# Altium schematic symbol library memory-idt.SCHLIB: 301 symbols (part 3 of 3)
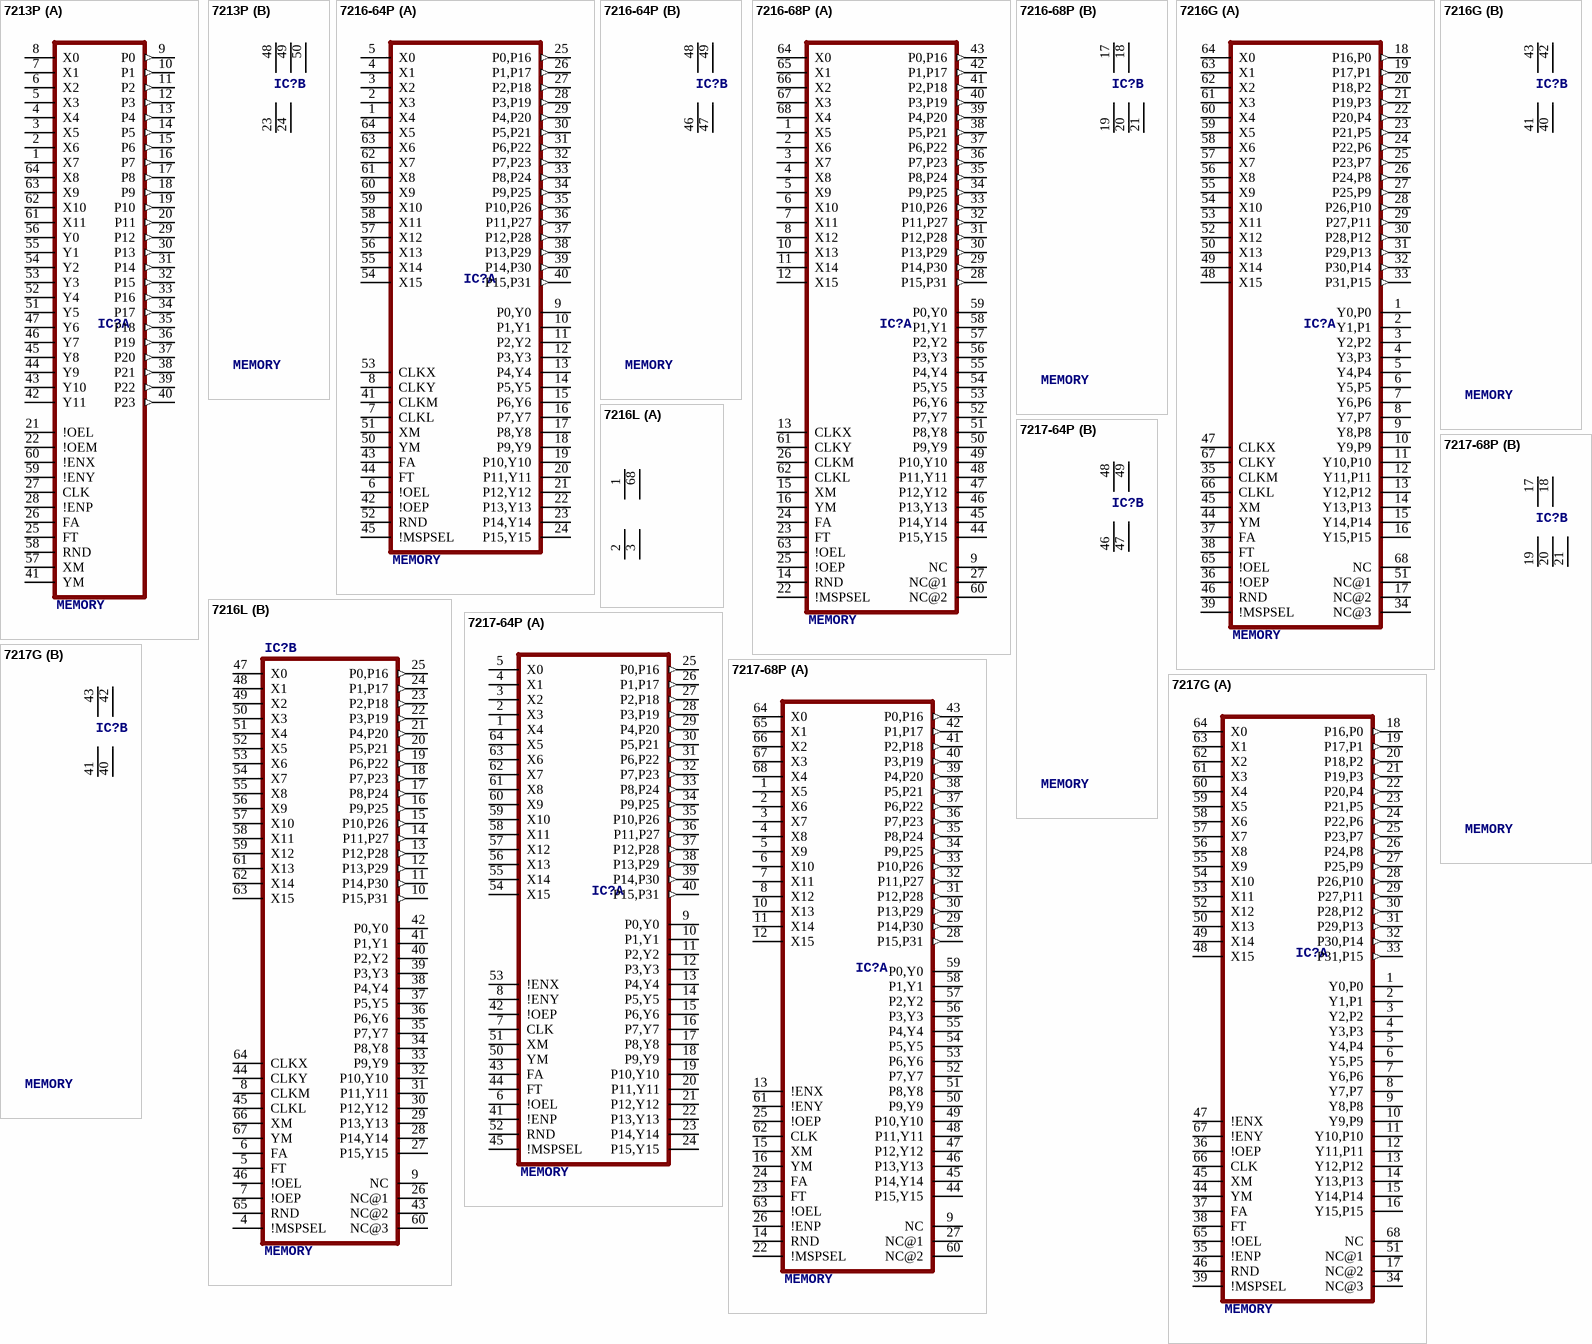
[diagram p22: symbols 7213P to 7217G]

## 7213P
designator IC?, comment MEMORY
OC_FARNELL: unknown; OC_NEWARK: unknown
footprint C64-1
part A pins: 1 X7, 2 X6, 3 X5, 4 X4, 5 X3, 6 X2, 7 X1, 8 X0, 9 P0 (out), 10 P1 (out), 11 P2 (out), 12 P3 (out), 13 P4 (out), 14 P5 (out), 15 P6 (out), 16 P7 (out), 17 P8 (out), 18 P9 (out), 19 P10 (out), 20 P11 (out), 21 !OEL, 22 !OEM, 25 FT, 26 FA, 27 CLK, 28 !ENP, 29 P12 (out), 30 P13 (out), 31 P14 (out), 32 P15 (out), 33 P16 (out), 34 P17 (out), 35 P18 (out), 36 P19 (out), 37 P20 (out), 38 P21 (out), 39 P22 (out), 40 P23 (out), 41 YM, 42 Y11, 43 Y10, 44 Y9, 45 Y8, 46 Y7, 47 Y6, 51 Y5, 52 Y4, 53 Y3, 54 Y2, 55 Y1, 56 Y0, 57 XM, 58 RND, 59 !ENY, 60 !ENX, 61 X11, 62 X10, 63 X9, 64 X8
part B pins: 23 GND (power), 24 GND@1 (power), 48 VCC (power), 49 VCC@1 (power), 50 VCC@2 (power)

## 7216-64P
designator IC?, comment MEMORY
OC_FARNELL: unknown; OC_NEWARK: unknown
footprint C64-1
part A pins: 1 X4, 2 X3, 3 X2, 4 X1, 5 X0, 6 !OEL, 7 CLKL, 8 CLKY, 9 P0,Y0, 10 P1,Y1, 11 P2,Y2, 12 P3,Y3, 13 P4,Y4, 14 P5,Y5, 15 P6,Y6, 16 P7,Y7, 17 P8,Y8, 18 P9,Y9, 19 P10,Y10, 20 P11,Y11, 21 P12,Y12, 22 P13,Y13, 23 P14,Y14, 24 P15,Y15, 25 P0,P16 (out), 26 P1,P17 (out), 27 P2,P18 (out), 28 P3,P19 (out), 29 P4,P20 (out), 30 P5,P21 (out), 31 P6,P22 (out), 32 P7,P23 (out), 33 P8,P24 (out), 34 P9,P25 (out), 35 P10,P26 (out), 36 P11,P27 (out), 37 P12,P28 (out), 38 P13,P29 (out), 39 P14,P30 (out), 40 P15,P31 (out), 41 CLKM, 42 !OEP, 43 FA, 44 FT, 45 !MSPSEL, 50 YM, 51 XM, 52 RND, 53 CLKX, 54 X15, 55 X14, 56 X13, 57 X12, 58 X11, 59 X10, 60 X9, 61 X8, 62 X7, 63 X6, 64 X5
part B pins: 46 GND (power), 47 GND@1 (power), 48 VCC (power), 49 VCC@1 (power)

## 7216-68P
designator IC?, comment MEMORY
OC_FARNELL: unknown; OC_NEWARK: unknown
footprint C68-1
part A pins: 1 X5, 2 X6, 3 X7, 4 X8, 5 X9, 6 X10, 7 X11, 8 X12, 9 NC, 10 X13, 11 X14, 12 X15, 13 CLKX, 14 RND, 15 XM, 16 YM, 22 !MSPSEL, 23 FT, 24 FA, 25 !OEP, 26 CLKM, 27 NC@1, 28 P15,P31 (out), 29 P14,P30 (out), 30 P13,P29 (out), 31 P12,P28 (out), 32 P11,P27 (out), 33 P10,P26 (out), 34 P9,P25 (out), 35 P8,P24 (out), 36 P7,P23 (out), 37 P6,P22 (out), 38 P5,P21 (out), 39 P4,P20 (out), 40 P3,P19 (out), 41 P2,P18 (out), 42 P1,P17 (out), 43 P0,P16 (out), 44 P15,Y15, 45 P14,Y14, 46 P13,Y13, 47 P12,Y12, 48 P11,Y11, 49 P10,Y10, 50 P9,Y9, 51 P8,Y8, 52 P7,Y7, 53 P6,Y6, 54 P5,Y5, 55 P4,Y4, 56 P3,Y3, 57 P2,Y2, 58 P1,Y1, 59 P0,Y0, 60 NC@2, 61 CLKY, 62 CLKL, 63 !OEL, 64 X0, 65 X1, 66 X2, 67 X3, 68 X4
part B pins: 17 VCC (power), 18 VCC@1 (power), 19 GND (power), 20 GND@1 (power), 21 GND@2 (power)

## 7216G
designator IC?, comment MEMORY
OC_FARNELL: unknown; OC_NEWARK: unknown
footprint G68-1
part A pins: 1 Y0,P0, 2 Y1,P1, 3 Y2,P2, 4 Y3,P3, 5 Y4,P4, 6 Y5,P5, 7 Y6,P6, 8 Y7,P7, 9 Y8,P8, 10 Y9,P9, 11 Y10,P10, 12 Y11,P11, 13 Y12,P12, 14 Y13,P13, 15 Y14,P14, 16 Y15,P15, 17 NC@2, 18 P16,P0 (out), 19 P17,P1 (out), 20 P18,P2 (out), 21 P19,P3 (out), 22 P20,P4 (out), 23 P21,P5 (out), 24 P22,P6 (out), 25 P23,P7 (out), 26 P24,P8 (out), 27 P25,P9 (out), 28 P26,P10 (out), 29 P27,P11 (out), 30 P28,P12 (out), 31 P29,P13 (out), 32 P30,P14 (out), 33 P31,P15 (out), 34 NC@3, 35 CLKM, 36 !OEP, 37 FA, 38 FT, 39 !MSPSEL, 44 YM, 45 XM, 46 RND, 47 CLKX, 48 X15, 49 X14, 50 X13, 51 NC@1, 52 X12, 53 X11, 54 X10, 55 X9, 56 X8, 57 X7, 58 X6, 59 X5, 60 X4, 61 X3, 62 X2, 63 X1, 64 X0, 65 !OEL, 66 CLKL, 67 CLKY, 68 NC
part B pins: 40 GND@1 (power), 41 GND (power), 42 VCC@1 (power), 43 VCC (power)

## 7216L
designator IC?, comment MEMORY
OC_FARNELL: unknown; OC_NEWARK: unknown
footprint L68-2
part A pins: 1 VCC (power), 2 GND (power), 3 GND@1 (power), 68 VCC@1 (power)
part B pins: 4 !MSPSEL, 5 FT, 6 FA, 7 !OEP, 8 CLKM, 9 NC, 10 P15,P31 (out), 11 P14,P30 (out), 12 P13,P29 (out), 13 P12,P28 (out), 14 P11,P27 (out), 15 P10,P26 (out), 16 P9,P25 (out), 17 P8,P24 (out), 18 P7,P23 (out), 19 P6,P22 (out), 20 P5,P21 (out), 21 P4,P20 (out), 22 P3,P19 (out), 23 P2,P18 (out), 24 P1,P17 (out), 25 P0,P16 (out), 26 NC@1, 27 P15,Y15, 28 P14,Y14, 29 P13,Y13, 30 P12,Y12, 31 P11,Y11, 32 P10,Y10, 33 P9,Y9, 34 P8,Y8, 35 P7,Y7, 36 P6,Y6, 37 P5,Y5, 38 P4,Y4, 39 P3,Y3, 40 P2,Y2, 41 P1,Y1, 42 P0,Y0, 43 NC@2, 44 CLKY, 45 CLKL, 46 !OEL, 47 X0, 48 X1, 49 X2, 50 X3, 51 X4, 52 X5, 53 X6, 54 X7, 55 X8, 56 X9, 57 X10, 58 X11, 59 X12, 60 NC@3, 61 X13, 62 X14, 63 X15, 64 CLKX, 65 RND, 66 XM, 67 YM

## 7217-64P
designator IC?, comment MEMORY
OC_FARNELL: unknown; OC_NEWARK: unknown
footprint C64-1
part A pins: 1 X4, 2 X3, 3 X2, 4 X1, 5 X0, 6 !OEL, 7 CLK, 8 !ENY, 9 P0,Y0, 10 P1,Y1, 11 P2,Y2, 12 P3,Y3, 13 P4,Y4, 14 P5,Y5, 15 P6,Y6, 16 P7,Y7, 17 P8,Y8, 18 P9,Y9, 19 P10,Y10, 20 P11,Y11, 21 P12,Y12, 22 P13,Y13, 23 P14,Y14, 24 P15,Y15, 25 P0,P16 (out), 26 P1,P17 (out), 27 P2,P18 (out), 28 P3,P19 (out), 29 P4,P20 (out), 30 P5,P21 (out), 31 P6,P22 (out), 32 P7,P23 (out), 33 P8,P24 (out), 34 P9,P25 (out), 35 P10,P26 (out), 36 P11,P27 (out), 37 P12,P28 (out), 38 P13,P29 (out), 39 P14,P30 (out), 40 P15,P31 (out), 41 !ENP, 42 !OEP, 43 FA, 44 FT, 45 !MSPSEL, 50 YM, 51 XM, 52 RND, 53 !ENX, 54 X15, 55 X14, 56 X13, 57 X12, 58 X11, 59 X10, 60 X9, 61 X8, 62 X7, 63 X6, 64 X5
part B pins: 46 GND (power), 47 GND@1 (power), 48 VCC (power), 49 VCC@1 (power)

## 7217-68P
designator IC?, comment MEMORY
OC_FARNELL: unknown; OC_NEWARK: unknown
footprint C68-1
part A pins: 1 X5, 2 X6, 3 X7, 4 X8, 5 X9, 6 X10, 7 X11, 8 X12, 9 NC, 10 X13, 11 X14, 12 X15, 13 !ENX, 14 RND, 15 XM, 16 YM, 22 !MSPSEL, 23 FT, 24 FA, 25 !OEP, 26 !ENP, 27 NC@1, 28 P15,P31 (out), 29 P14,P30 (out), 30 P13,P29 (out), 31 P12,P28 (out), 32 P11,P27 (out), 33 P10,P26 (out), 34 P9,P25 (out), 35 P8,P24 (out), 36 P7,P23 (out), 37 P6,P22 (out), 38 P5,P21 (out), 39 P4,P20 (out), 40 P3,P19 (out), 41 P2,P18 (out), 42 P1,P17 (out), 43 P0,P16 (out), 44 P15,Y15, 45 P14,Y14, 46 P13,Y13, 47 P12,Y12, 48 P11,Y11, 49 P10,Y10, 50 P9,Y9, 51 P8,Y8, 52 P7,Y7, 53 P6,Y6, 54 P5,Y5, 55 P4,Y4, 56 P3,Y3, 57 P2,Y2, 58 P1,Y1, 59 P0,Y0, 60 NC@2, 61 !ENY, 62 CLK, 63 !OEL, 64 X0, 65 X1, 66 X2, 67 X3, 68 X4
part B pins: 17 VCC (power), 18 VCC@1 (power), 19 GND (power), 20 GND@1 (power), 21 GND@2 (power)

## 7217G
designator IC?, comment MEMORY
OC_FARNELL: unknown; OC_NEWARK: unknown
footprint G68-1
part A pins: 1 Y0,P0, 2 Y1,P1, 3 Y2,P2, 4 Y3,P3, 5 Y4,P4, 6 Y5,P5, 7 Y6,P6, 8 Y7,P7, 9 Y8,P8, 10 Y9,P9, 11 Y10,P10, 12 Y11,P11, 13 Y12,P12, 14 Y13,P13, 15 Y14,P14, 16 Y15,P15, 17 NC@2, 18 P16,P0 (out), 19 P17,P1 (out), 20 P18,P2 (out), 21 P19,P3 (out), 22 P20,P4 (out), 23 P21,P5 (out), 24 P22,P6 (out), 25 P23,P7 (out), 26 P24,P8 (out), 27 P25,P9 (out), 28 P26,P10 (out), 29 P27,P11 (out), 30 P28,P12 (out), 31 P29,P13 (out), 32 P30,P14 (out), 33 P31,P15 (out), 34 NC@3, 35 !ENP, 36 !OEP, 37 FA, 38 FT, 39 !MSPSEL, 44 YM, 45 XM, 46 RND, 47 !ENX, 48 X15, 49 X14, 50 X13, 51 NC@1, 52 X12, 53 X11, 54 X10, 55 X9, 56 X8, 57 X7, 58 X6, 59 X5, 60 X4, 61 X3, 62 X2, 63 X1, 64 X0, 65 !OEL, 66 CLK, 67 !ENY, 68 NC
part B pins: 40 GND@1 (power), 41 GND (power), 42 VCC@1 (power), 43 VCC (power)

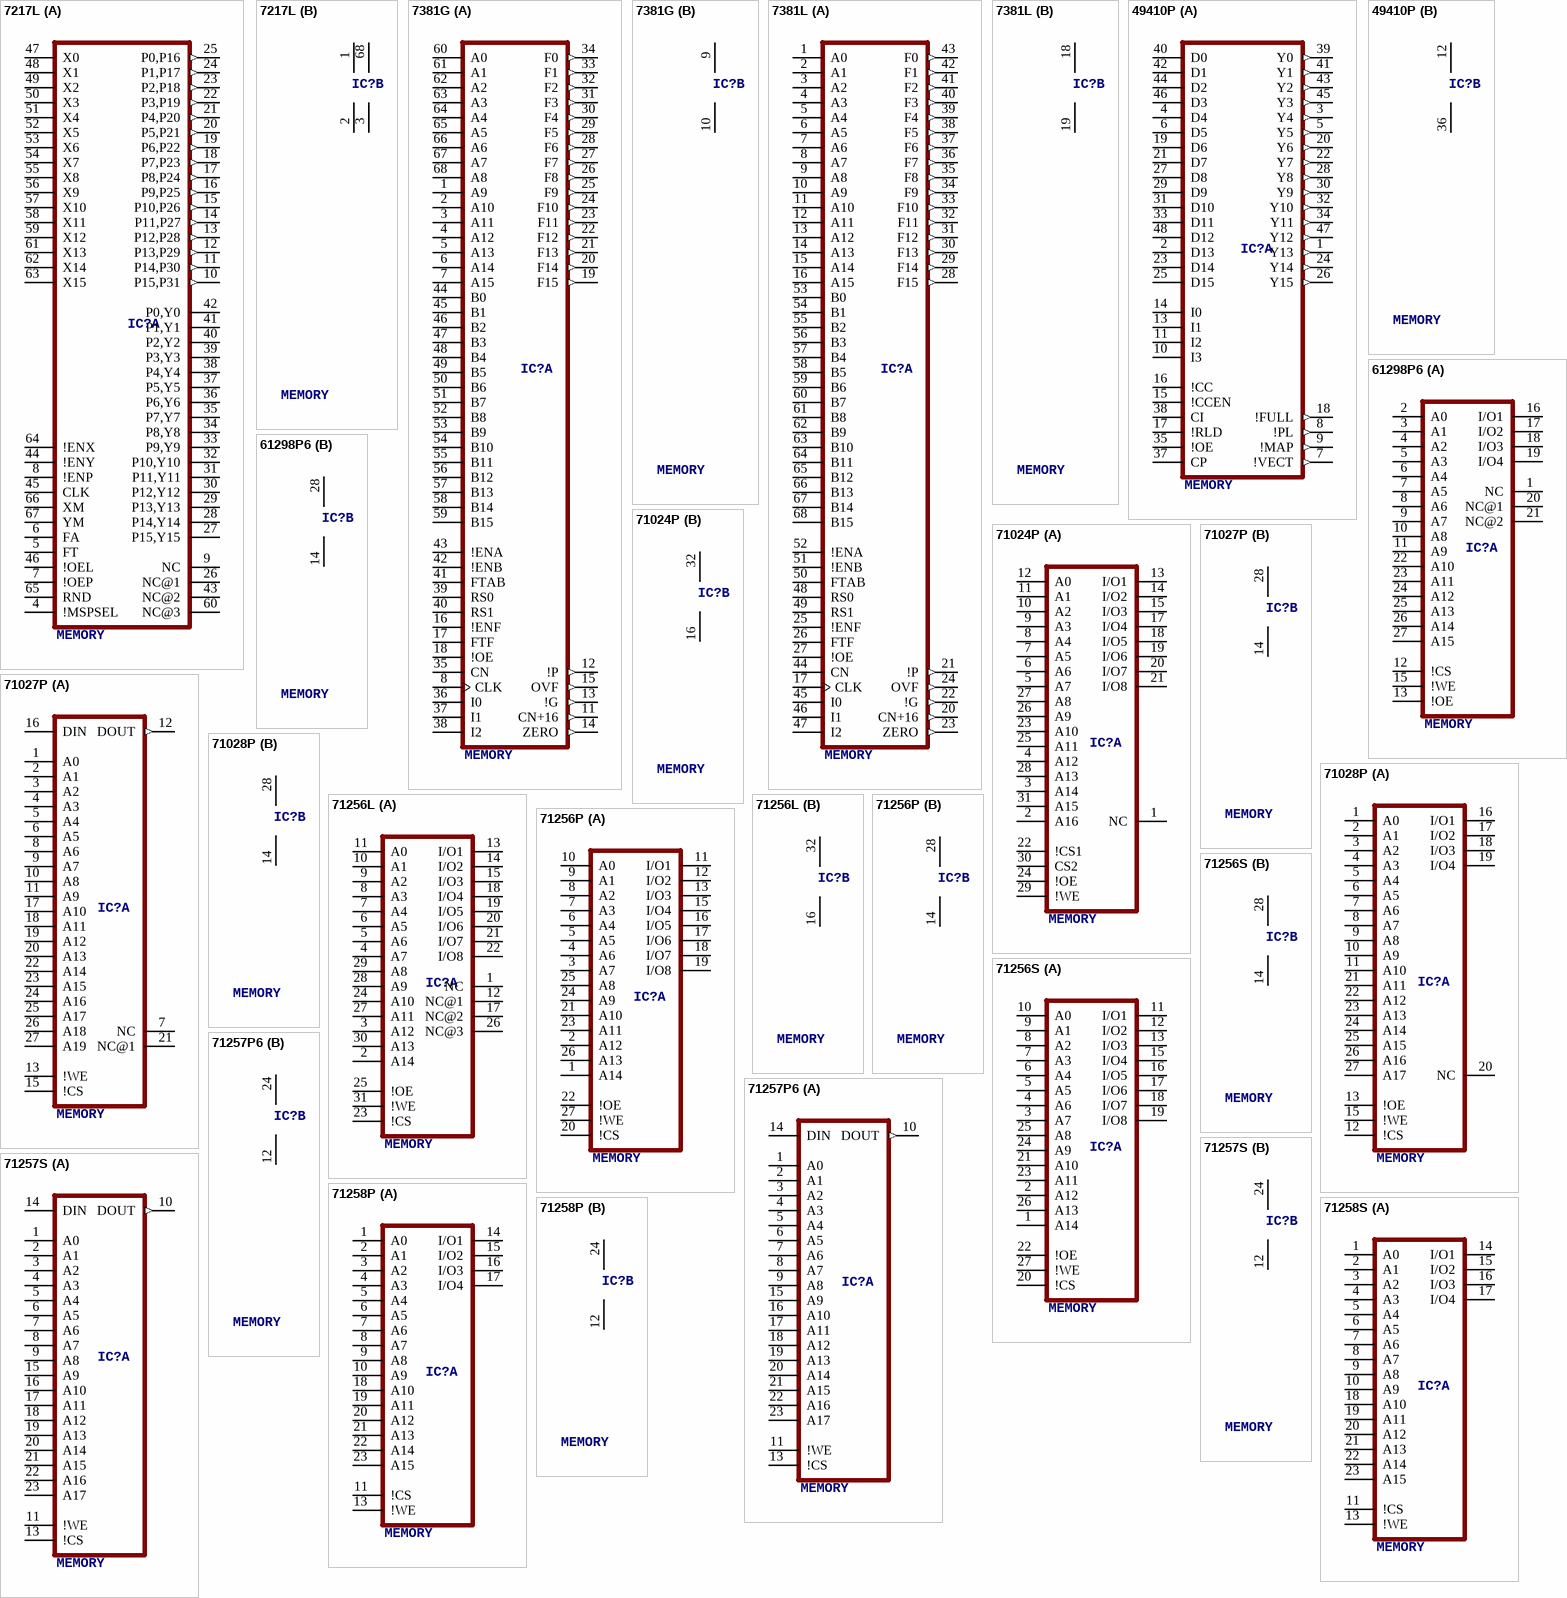
[diagram p17: symbols 7217L to 71258S]

## 7217L
designator IC?, comment MEMORY
OC_FARNELL: unknown; OC_NEWARK: unknown
footprint L68-2
part A pins: 4 !MSPSEL, 5 FT, 6 FA, 7 !OEP, 8 !ENP, 9 NC, 10 P15,P31 (out), 11 P14,P30 (out), 12 P13,P29 (out), 13 P12,P28 (out), 14 P11,P27 (out), 15 P10,P26 (out), 16 P9,P25 (out), 17 P8,P24 (out), 18 P7,P23 (out), 19 P6,P22 (out), 20 P5,P21 (out), 21 P4,P20 (out), 22 P3,P19 (out), 23 P2,P18 (out), 24 P1,P17 (out), 25 P0,P16 (out), 26 NC@1, 27 P15,Y15, 28 P14,Y14, 29 P13,Y13, 30 P12,Y12, 31 P11,Y11, 32 P10,Y10, 33 P9,Y9, 34 P8,Y8, 35 P7,Y7, 36 P6,Y6, 37 P5,Y5, 38 P4,Y4, 39 P3,Y3, 40 P2,Y2, 41 P1,Y1, 42 P0,Y0, 43 NC@2, 44 !ENY, 45 CLK, 46 !OEL, 47 X0, 48 X1, 49 X2, 50 X3, 51 X4, 52 X5, 53 X6, 54 X7, 55 X8, 56 X9, 57 X10, 58 X11, 59 X12, 60 NC@3, 61 X13, 62 X14, 63 X15, 64 !ENX, 65 RND, 66 XM, 67 YM
part B pins: 1 VCC (power), 2 GND (power), 3 GND@1 (power), 68 VCC@1 (power)

## 7381G
designator IC?, comment MEMORY
OC_FARNELL: unknown; OC_NEWARK: unknown
footprint G68-1
part A pins: 1 A9, 2 A10, 3 A11, 4 A12, 5 A13, 6 A14, 7 A15, 8 CLK, 11 CN+16 (out), 12 !P (out), 13 !G (out), 14 ZERO (out), 15 OVF (out), 16 !ENF, 17 FTF, 18 !OE, 19 F15 (out), 20 F14 (out), 21 F13 (out), 22 F12 (out), 23 F11 (out), 24 F10 (out), 25 F9 (out), 26 F8 (out), 27 F7 (out), 28 F6 (out), 29 F5 (out), 30 F4 (out), 31 F3 (out), 32 F2 (out), 33 F1 (out), 34 F0 (out), 35 CN, 36 I0, 37 I1, 38 I2, 39 RS0, 40 RS1, 41 FTAB, 42 !ENB, 43 !ENA, 44 B0, 45 B1, 46 B2, 47 B3, 48 B4, 49 B5, 50 B6, 51 B7, 52 B8, 53 B9, 54 B10, 55 B11, 56 B12, 57 B13, 58 B14, 59 B15, 60 A0, 61 A1, 62 A2, 63 A3, 64 A4, 65 A5, 66 A6, 67 A7, 68 A8
part B pins: 9 VCC (power), 10 GND (power)

## 7381L
designator IC?, comment MEMORY
OC_FARNELL: unknown; OC_NEWARK: unknown
footprint L68-2
part A pins: 1 A0, 2 A1, 3 A2, 4 A3, 5 A4, 6 A5, 7 A6, 8 A7, 9 A8, 10 A9, 11 A10, 12 A11, 13 A12, 14 A13, 15 A14, 16 A15, 17 CLK, 20 CN+16 (out), 21 !P (out), 22 !G (out), 23 ZERO (out), 24 OVF (out), 25 !ENF, 26 FTF, 27 !OE, 28 F15 (out), 29 F14 (out), 30 F13 (out), 31 F12 (out), 32 F11 (out), 33 F10 (out), 34 F9 (out), 35 F8 (out), 36 F7 (out), 37 F6 (out), 38 F5 (out), 39 F4 (out), 40 F3 (out), 41 F2 (out), 42 F1 (out), 43 F0 (out), 44 CN, 45 I0, 46 I1, 47 I2, 48 RS0, 49 RS1, 50 FTAB, 51 !ENB, 52 !ENA, 53 B0, 54 B1, 55 B2, 56 B3, 57 B4, 58 B5, 59 B6, 60 B7, 61 B8, 62 B9, 63 B10, 64 B11, 65 B12, 66 B13, 67 B14, 68 B15
part B pins: 18 VCC (power), 19 GND (power)

## 49410P
designator IC?, comment MEMORY
OC_FARNELL: unknown; OC_NEWARK: unknown
footprint DIL48
part A pins: 1 Y13 (out), 2 D13, 3 Y4 (out), 4 D4, 5 Y5 (out), 6 D5, 7 !VECT (out), 8 !PL (out), 9 !MAP (out), 10 I3, 11 I2, 13 I1, 14 I0, 15 !CCEN, 16 !CC, 17 !RLD, 18 !FULL (out), 19 D6, 20 Y6 (out), 21 D7, 22 Y7 (out), 23 D14, 24 Y14 (out), 25 D15, 26 Y15 (out), 27 D8, 28 Y8 (out), 29 D9, 30 Y9 (out), 31 D10, 32 Y10 (out), 33 D11, 34 Y11 (out), 35 !OE, 37 CP, 38 CI, 39 Y0 (out), 40 D0, 41 Y1 (out), 42 D1, 43 Y2 (out), 44 D2, 45 Y3 (out), 46 D3, 47 Y12 (out), 48 D12
part B pins: 12 VCC (power), 36 GND (power)

## 61298P6
designator IC?, comment MEMORY
OC_FARNELL: unknown; OC_NEWARK: unknown
footprint DIL28-3
part A pins: 1 NC, 2 A0, 3 A1, 4 A2, 5 A3, 6 A4, 7 A5, 8 A6, 9 A7, 10 A8, 11 A9, 12 !CS, 13 !OE, 15 !WE, 16 I/O1, 17 I/O2, 18 I/O3, 19 I/O4, 20 NC@1, 21 NC@2, 22 A10, 23 A11, 24 A12, 25 A13, 26 A14, 27 A15
part B pins: 14 GND (power), 28 VCC (power)

## 71024P
designator IC?, comment MEMORY
OC_FARNELL: unknown; OC_NEWARK: unknown
footprint DIL32
part A pins: 1 NC, 2 A16, 3 A14, 4 A12, 5 A7, 6 A6, 7 A5, 8 A4, 9 A3, 10 A2, 11 A1, 12 A0, 13 I/O1, 14 I/O2, 15 I/O3, 17 I/O4, 18 I/O5, 19 I/O6, 20 I/O7, 21 I/O8, 22 !CS1, 23 A10, 24 !OE, 25 A11, 26 A9, 27 A8, 28 A13, 29 !WE, 30 CS2, 31 A15
part B pins: 16 GND (power), 32 VCC (power)

## 71027P
designator IC?, comment MEMORY
OC_FARNELL: unknown; OC_NEWARK: unknown
footprint DIL28-6
part A pins: 1 A0, 2 A1, 3 A2, 4 A3, 5 A4, 6 A5, 7 NC, 8 A6, 9 A7, 10 A8, 11 A9, 12 DOUT (out), 13 !WE, 15 !CS, 16 DIN, 17 A10, 18 A11, 19 A12, 20 A13, 21 NC@1, 22 A14, 23 A15, 24 A16, 25 A17, 26 A18, 27 A19
part B pins: 14 GND (power), 28 VCC (power)

## 71028P
designator IC?, comment MEMORY
OC_FARNELL: unknown; OC_NEWARK: unknown
footprint DIL28-6
part A pins: 1 A0, 2 A1, 3 A2, 4 A3, 5 A4, 6 A5, 7 A6, 8 A7, 9 A8, 10 A9, 11 A10, 12 !CS, 13 !OE, 15 !WE, 16 I/O1, 17 I/O2, 18 I/O3, 19 I/O4, 20 NC, 21 A11, 22 A12, 23 A13, 24 A14, 25 A15, 26 A16, 27 A17
part B pins: 14 GND (power), 28 VCC (power)

## 71256L
designator IC?, comment MEMORY
OC_FARNELL: unknown; OC_NEWARK: unknown
footprint L32-1
part A pins: 1 NC, 2 A14, 3 A12, 4 A7, 5 A6, 6 A5, 7 A4, 8 A3, 9 A2, 10 A1, 11 A0, 12 NC@1, 13 I/O1, 14 I/O2, 15 I/O3, 17 NC@2, 18 I/O4, 19 I/O5, 20 I/O6, 21 I/O7, 22 I/O8, 23 !CS, 24 A10, 25 !OE, 26 NC@3, 27 A11, 28 A9, 29 A8, 30 A13, 31 !WE
part B pins: 16 GND (power), 32 VCC (power)

## 71256P
designator IC?, comment MEMORY
OC_FARNELL: unknown; OC_NEWARK: unknown
footprint DIL28-6
part A pins: 1 A14, 2 A12, 3 A7, 4 A6, 5 A5, 6 A4, 7 A3, 8 A2, 9 A1, 10 A0, 11 I/O1, 12 I/O2, 13 I/O3, 15 I/O4, 16 I/O5, 17 I/O6, 18 I/O7, 19 I/O8, 20 !CS, 21 A10, 22 !OE, 23 A11, 24 A9, 25 A8, 26 A13, 27 !WE
part B pins: 14 GND (power), 28 VCC (power)

## 71256S
designator IC?, comment MEMORY
MPN: IDT71256SA20YG; OC_FARNELL: 1218010; OC_NEWARK: 34M6449
footprint SO28-3
part A pins: 1 A14, 2 A12, 3 A7, 4 A6, 5 A5, 6 A4, 7 A3, 8 A2, 9 A1, 10 A0, 11 I/O1, 12 I/O2, 13 I/O3, 15 I/O4, 16 I/O5, 17 I/O6, 18 I/O7, 19 I/O8, 20 !CS, 21 A10, 22 !OE, 23 A11, 24 A9, 25 A8, 26 A13, 27 !WE
part B pins: 14 GND (power), 28 VCC (power)

## 71257P6
designator IC?, comment MEMORY
OC_FARNELL: unknown; OC_NEWARK: unknown
footprint DIL24-6
part A pins: 1 A0, 2 A1, 3 A2, 4 A3, 5 A4, 6 A5, 7 A6, 8 A7, 9 A8, 10 DOUT (out), 11 !WE, 13 !CS, 14 DIN, 15 A9, 16 A10, 17 A11, 18 A12, 19 A13, 20 A14, 21 A15, 22 A16, 23 A17
part B pins: 12 GND (power), 24 VCC (power)

## 71257S
designator IC?, comment MEMORY
OC_FARNELL: unknown; OC_NEWARK: unknown
footprint SO24-2
part A pins: 1 A0, 2 A1, 3 A2, 4 A3, 5 A4, 6 A5, 7 A6, 8 A7, 9 A8, 10 DOUT (out), 11 !WE, 13 !CS, 14 DIN, 15 A9, 16 A10, 17 A11, 18 A12, 19 A13, 20 A14, 21 A15, 22 A16, 23 A17
part B pins: 12 GND (power), 24 VCC (power)

## 71258P
designator IC?, comment MEMORY
OC_FARNELL: unknown; OC_NEWARK: unknown
footprint DIL24-6
part A pins: 1 A0, 2 A1, 3 A2, 4 A3, 5 A4, 6 A5, 7 A6, 8 A7, 9 A8, 10 A9, 11 !CS, 13 !WE, 14 I/O1, 15 I/O2, 16 I/O3, 17 I/O4, 18 A10, 19 A11, 20 A12, 21 A13, 22 A14, 23 A15
part B pins: 12 GND (power), 24 VCC (power)

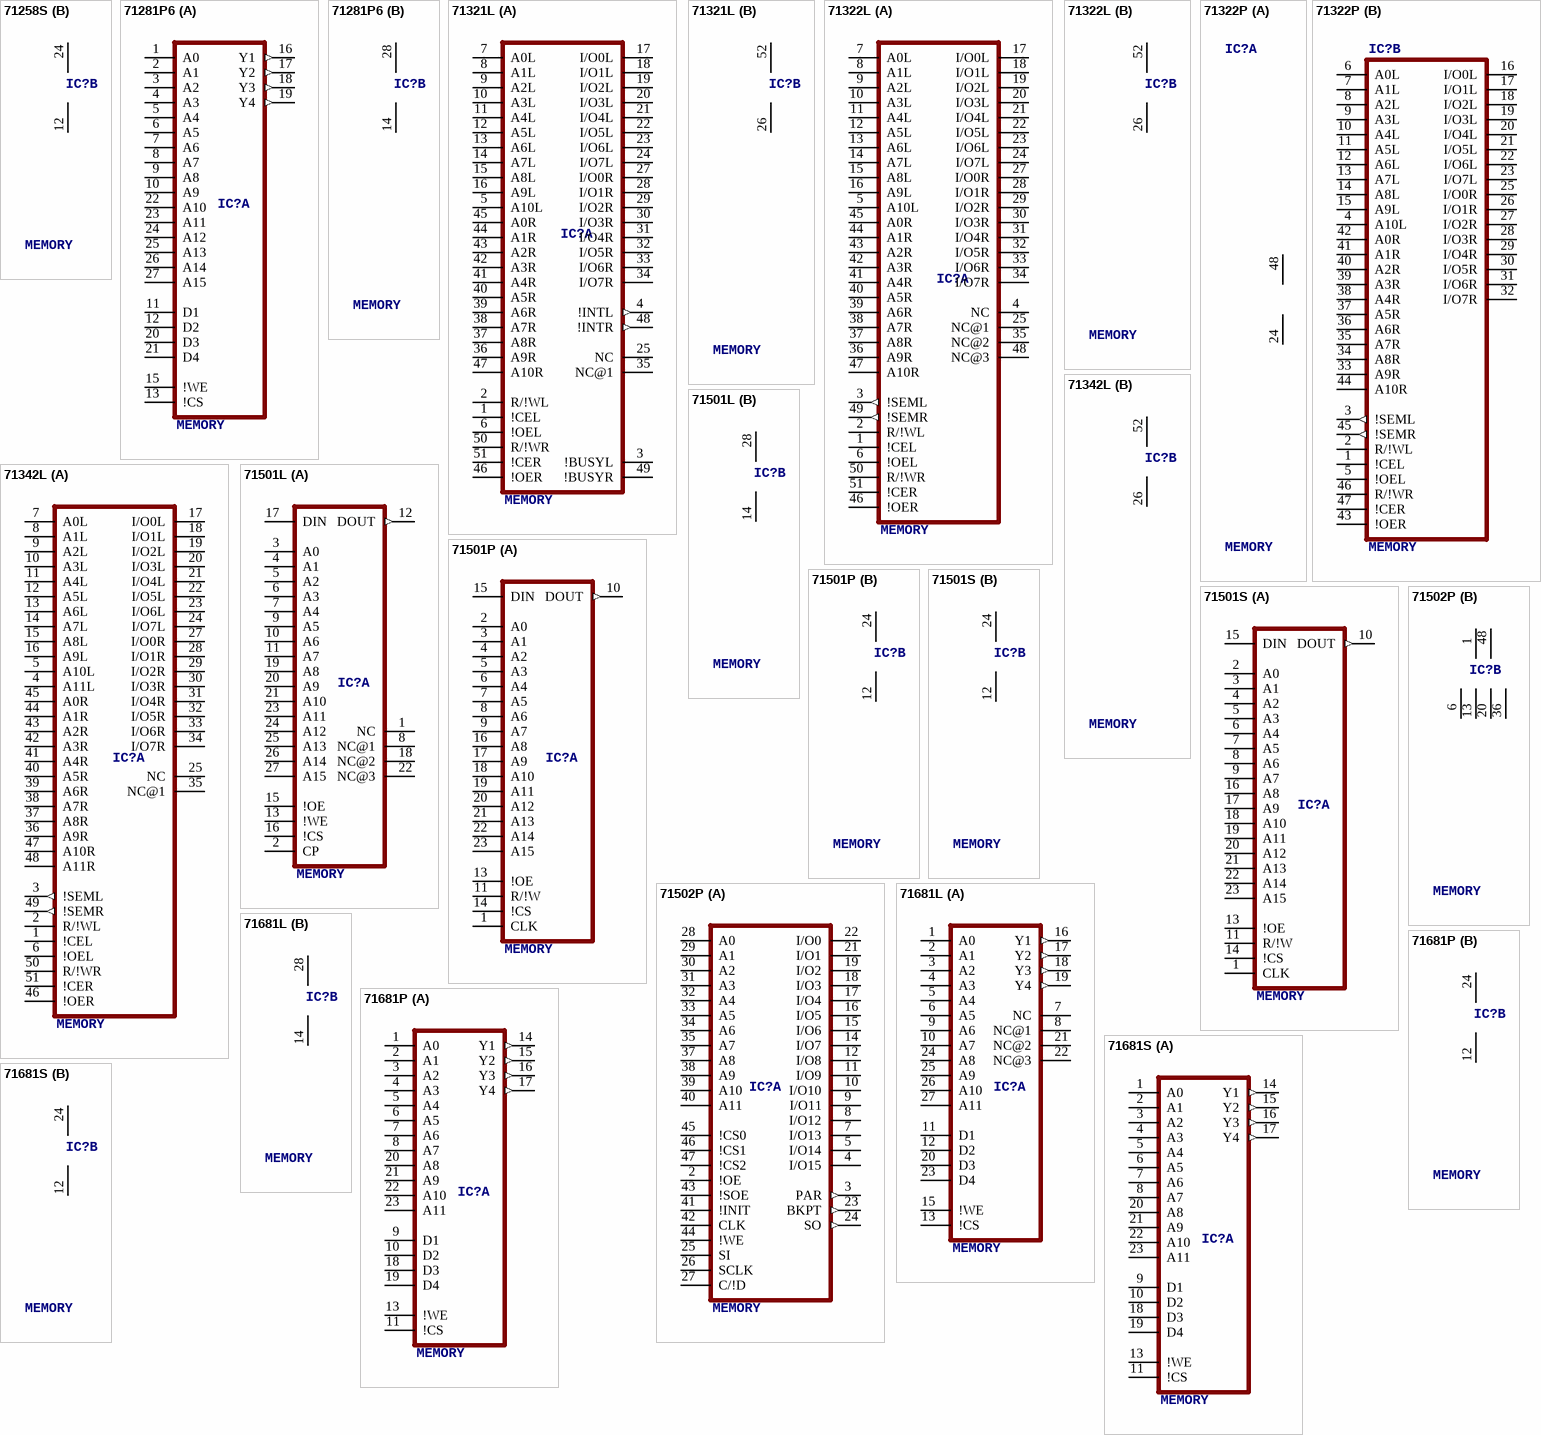
[diagram p18: symbols 71258S to 71681S]

## 71258S
designator IC?, comment MEMORY
OC_FARNELL: unknown; OC_NEWARK: unknown
footprint SO24-2
part A pins: 1 A0, 2 A1, 3 A2, 4 A3, 5 A4, 6 A5, 7 A6, 8 A7, 9 A8, 10 A9, 11 !CS, 13 !WE, 14 I/O1, 15 I/O2, 16 I/O3, 17 I/O4, 18 A10, 19 A11, 20 A12, 21 A13, 22 A14, 23 A15
part B pins: 12 GND (power), 24 VCC (power)

## 71281P6
designator IC?, comment MEMORY
OC_FARNELL: unknown; OC_NEWARK: unknown
footprint DIL28-3
part A pins: 1 A0, 2 A1, 3 A2, 4 A3, 5 A4, 6 A5, 7 A6, 8 A7, 9 A8, 10 A9, 11 D1, 12 D2, 13 !CS, 15 !WE, 16 Y1 (out), 17 Y2 (out), 18 Y3 (out), 19 Y4 (out), 20 D3, 21 D4, 22 A10, 23 A11, 24 A12, 25 A13, 26 A14, 27 A15
part B pins: 14 GND (power), 28 VCC (power)

## 71321L
designator IC?, comment MEMORY
OC_FARNELL: unknown; OC_NEWARK: unknown
footprint L52-1
part A pins: 1 !CEL, 2 R/!WL, 3 !BUSYL, 4 !INTL (out), 5 A10L, 6 !OEL, 7 A0L, 8 A1L, 9 A2L, 10 A3L, 11 A4L, 12 A5L, 13 A6L, 14 A7L, 15 A8L, 16 A9L, 17 I/O0L, 18 I/O1L, 19 I/O2L, 20 I/O3L, 21 I/O4L, 22 I/O5L, 23 I/O6L, 24 I/O7L, 25 NC, 27 I/O0R, 28 I/O1R, 29 I/O2R, 30 I/O3R, 31 I/O4R, 32 I/O5R, 33 I/O6R, 34 I/O7R, 35 NC@1, 36 A9R, 37 A8R, 38 A7R, 39 A6R, 40 A5R, 41 A4R, 42 A3R, 43 A2R, 44 A1R, 45 A0R, 46 !OER, 47 A10R, 48 !INTR (out), 49 !BUSYR, 50 R/!WR, 51 !CER
part B pins: 26 GND (power), 52 VCC (power)

## 71322L
designator IC?, comment MEMORY
OC_FARNELL: unknown; OC_NEWARK: unknown
footprint L52-1
part A pins: 1 !CEL, 2 R/!WL, 3 !SEML (out), 4 NC, 5 A10L, 6 !OEL, 7 A0L, 8 A1L, 9 A2L, 10 A3L, 11 A4L, 12 A5L, 13 A6L, 14 A7L, 15 A8L, 16 A9L, 17 I/O0L, 18 I/O1L, 19 I/O2L, 20 I/O3L, 21 I/O4L, 22 I/O5L, 23 I/O6L, 24 I/O7L, 25 NC@1, 27 I/O0R, 28 I/O1R, 29 I/O2R, 30 I/O3R, 31 I/O4R, 32 I/O5R, 33 I/O6R, 34 I/O7R, 35 NC@2, 36 A9R, 37 A8R, 38 A7R, 39 A6R, 40 A5R, 41 A4R, 42 A3R, 43 A2R, 44 A1R, 45 A0R, 46 !OER, 47 A10R, 48 NC@3, 49 !SEMR (out), 50 R/!WR, 51 !CER
part B pins: 26 GND (power), 52 VCC (power)

## 71322P
designator IC?, comment MEMORY
OC_FARNELL: unknown; OC_NEWARK: unknown
footprint DIL48
part A pins: 24 GND (power), 48 VCC (power)
part B pins: 1 !CEL, 2 R/!WL, 3 !SEML (out), 4 A10L, 5 !OEL, 6 A0L, 7 A1L, 8 A2L, 9 A3L, 10 A4L, 11 A5L, 12 A6L, 13 A7L, 14 A8L, 15 A9L, 16 I/O0L, 17 I/O1L, 18 I/O2L, 19 I/O3L, 20 I/O4L, 21 I/O5L, 22 I/O6L, 23 I/O7L, 25 I/O0R, 26 I/O1R, 27 I/O2R, 28 I/O3R, 29 I/O4R, 30 I/O5R, 31 I/O6R, 32 I/O7R, 33 A9R, 34 A8R, 35 A7R, 36 A6R, 37 A5R, 38 A4R, 39 A3R, 40 A2R, 41 A1R, 42 A0R, 43 !OER, 44 A10R, 45 !SEMR (out), 46 R/!WR, 47 !CER

## 71342L
designator IC?, comment MEMORY
OC_FARNELL: unknown; OC_NEWARK: unknown
footprint L52-1
part A pins: 1 !CEL, 2 R/!WL, 3 !SEML (out), 4 A11L, 5 A10L, 6 !OEL, 7 A0L, 8 A1L, 9 A2L, 10 A3L, 11 A4L, 12 A5L, 13 A6L, 14 A7L, 15 A8L, 16 A9L, 17 I/O0L, 18 I/O1L, 19 I/O2L, 20 I/O3L, 21 I/O4L, 22 I/O5L, 23 I/O6L, 24 I/O7L, 25 NC, 27 I/O0R, 28 I/O1R, 29 I/O2R, 30 I/O3R, 31 I/O4R, 32 I/O5R, 33 I/O6R, 34 I/O7R, 35 NC@1, 36 A9R, 37 A8R, 38 A7R, 39 A6R, 40 A5R, 41 A4R, 42 A3R, 43 A2R, 44 A1R, 45 A0R, 46 !OER, 47 A10R, 48 A11R, 49 !SEMR (out), 50 R/!WR, 51 !CER
part B pins: 26 GND (power), 52 VCC (power)

## 71501L
designator IC?, comment MEMORY
OC_FARNELL: unknown; OC_NEWARK: unknown
footprint L28-2
part A pins: 1 NC, 2 CP, 3 A0, 4 A1, 5 A2, 6 A3, 7 A4, 8 NC@1, 9 A5, 10 A6, 11 A7, 12 DOUT (out), 13 !WE, 15 !OE, 16 !CS, 17 DIN, 18 NC@2, 19 A8, 20 A9, 21 A10, 22 NC@3, 23 A11, 24 A12, 25 A13, 26 A14, 27 A15
part B pins: 14 GND (power), 28 VCC (power)

## 71501P
designator IC?, comment MEMORY
OC_FARNELL: unknown; OC_NEWARK: unknown
footprint DIL24-6
part A pins: 1 CLK, 2 A0, 3 A1, 4 A2, 5 A3, 6 A4, 7 A5, 8 A6, 9 A7, 10 DOUT (out), 11 R/!W, 13 !OE, 14 !CS, 15 DIN, 16 A8, 17 A9, 18 A10, 19 A11, 20 A12, 21 A13, 22 A14, 23 A15
part B pins: 12 GND (power), 24 VCC (power)

## 71501S
designator IC?, comment MEMORY
OC_FARNELL: unknown; OC_NEWARK: unknown
footprint SO24-2
part A pins: 1 CLK, 2 A0, 3 A1, 4 A2, 5 A3, 6 A4, 7 A5, 8 A6, 9 A7, 10 DOUT (out), 11 R/!W, 13 !OE, 14 !CS, 15 DIN, 16 A8, 17 A9, 18 A10, 19 A11, 20 A12, 21 A13, 22 A14, 23 A15
part B pins: 12 GND (power), 24 VCC (power)

## 71502P
designator IC?, comment MEMORY
OC_FARNELL: unknown; OC_NEWARK: unknown
footprint DIL48
part A pins: 2 !OE, 3 PAR (out), 4 I/O15, 5 I/O14, 7 I/O13, 8 I/O12, 9 I/O11, 10 I/O10, 11 I/O9, 12 I/O8, 14 I/O7, 15 I/O6, 16 I/O5, 17 I/O4, 18 I/O3, 19 I/O2, 21 I/O1, 22 I/O0, 23 BKPT (out), 24 SO (out), 25 SI, 26 SCLK, 27 C/!D, 28 A0, 29 A1, 30 A2, 31 A3, 32 A4, 33 A5, 34 A6, 35 A7, 37 A8, 38 A9, 39 A10, 40 A11, 41 !INIT, 42 CLK, 43 !SOE, 44 !WE, 45 !CS0, 46 !CS1, 47 !CS2
part B pins: 1 VCC (power), 6 GND (power), 13 GND@1 (power), 20 GND@2 (power), 36 GND@3 (power), 48 VCC@1 (power)

## 71681L
designator IC?, comment MEMORY
OC_FARNELL: unknown; OC_NEWARK: unknown
footprint L28-1
part A pins: 1 A0, 2 A1, 3 A2, 4 A3, 5 A4, 6 A5, 7 NC, 8 NC@1, 9 A6, 10 A7, 11 D1, 12 D2, 13 !CS, 15 !WE, 16 Y1 (out), 17 Y2 (out), 18 Y3 (out), 19 Y4 (out), 20 D3, 21 NC@2, 22 NC@3, 23 D4, 24 A8, 25 A9, 26 A10, 27 A11
part B pins: 14 GND (power), 28 VCC (power)

## 71681P
designator IC?, comment MEMORY
OC_FARNELL: unknown; OC_NEWARK: unknown
footprint DIL24-6
part A pins: 1 A0, 2 A1, 3 A2, 4 A3, 5 A4, 6 A5, 7 A6, 8 A7, 9 D1, 10 D2, 11 !CS, 13 !WE, 14 Y1 (out), 15 Y2 (out), 16 Y3 (out), 17 Y4 (out), 18 D3, 19 D4, 20 A8, 21 A9, 22 A10, 23 A11
part B pins: 12 GND (power), 24 VCC (power)

## 71681S
designator IC?, comment MEMORY
OC_FARNELL: unknown; OC_NEWARK: unknown
footprint SO24-2
part A pins: 1 A0, 2 A1, 3 A2, 4 A3, 5 A4, 6 A5, 7 A6, 8 A7, 9 D1, 10 D2, 11 !CS, 13 !WE, 14 Y1 (out), 15 Y2 (out), 16 Y3 (out), 17 Y4 (out), 18 D3, 19 D4, 20 A8, 21 A9, 22 A10, 23 A11
part B pins: 12 GND (power), 24 VCC (power)

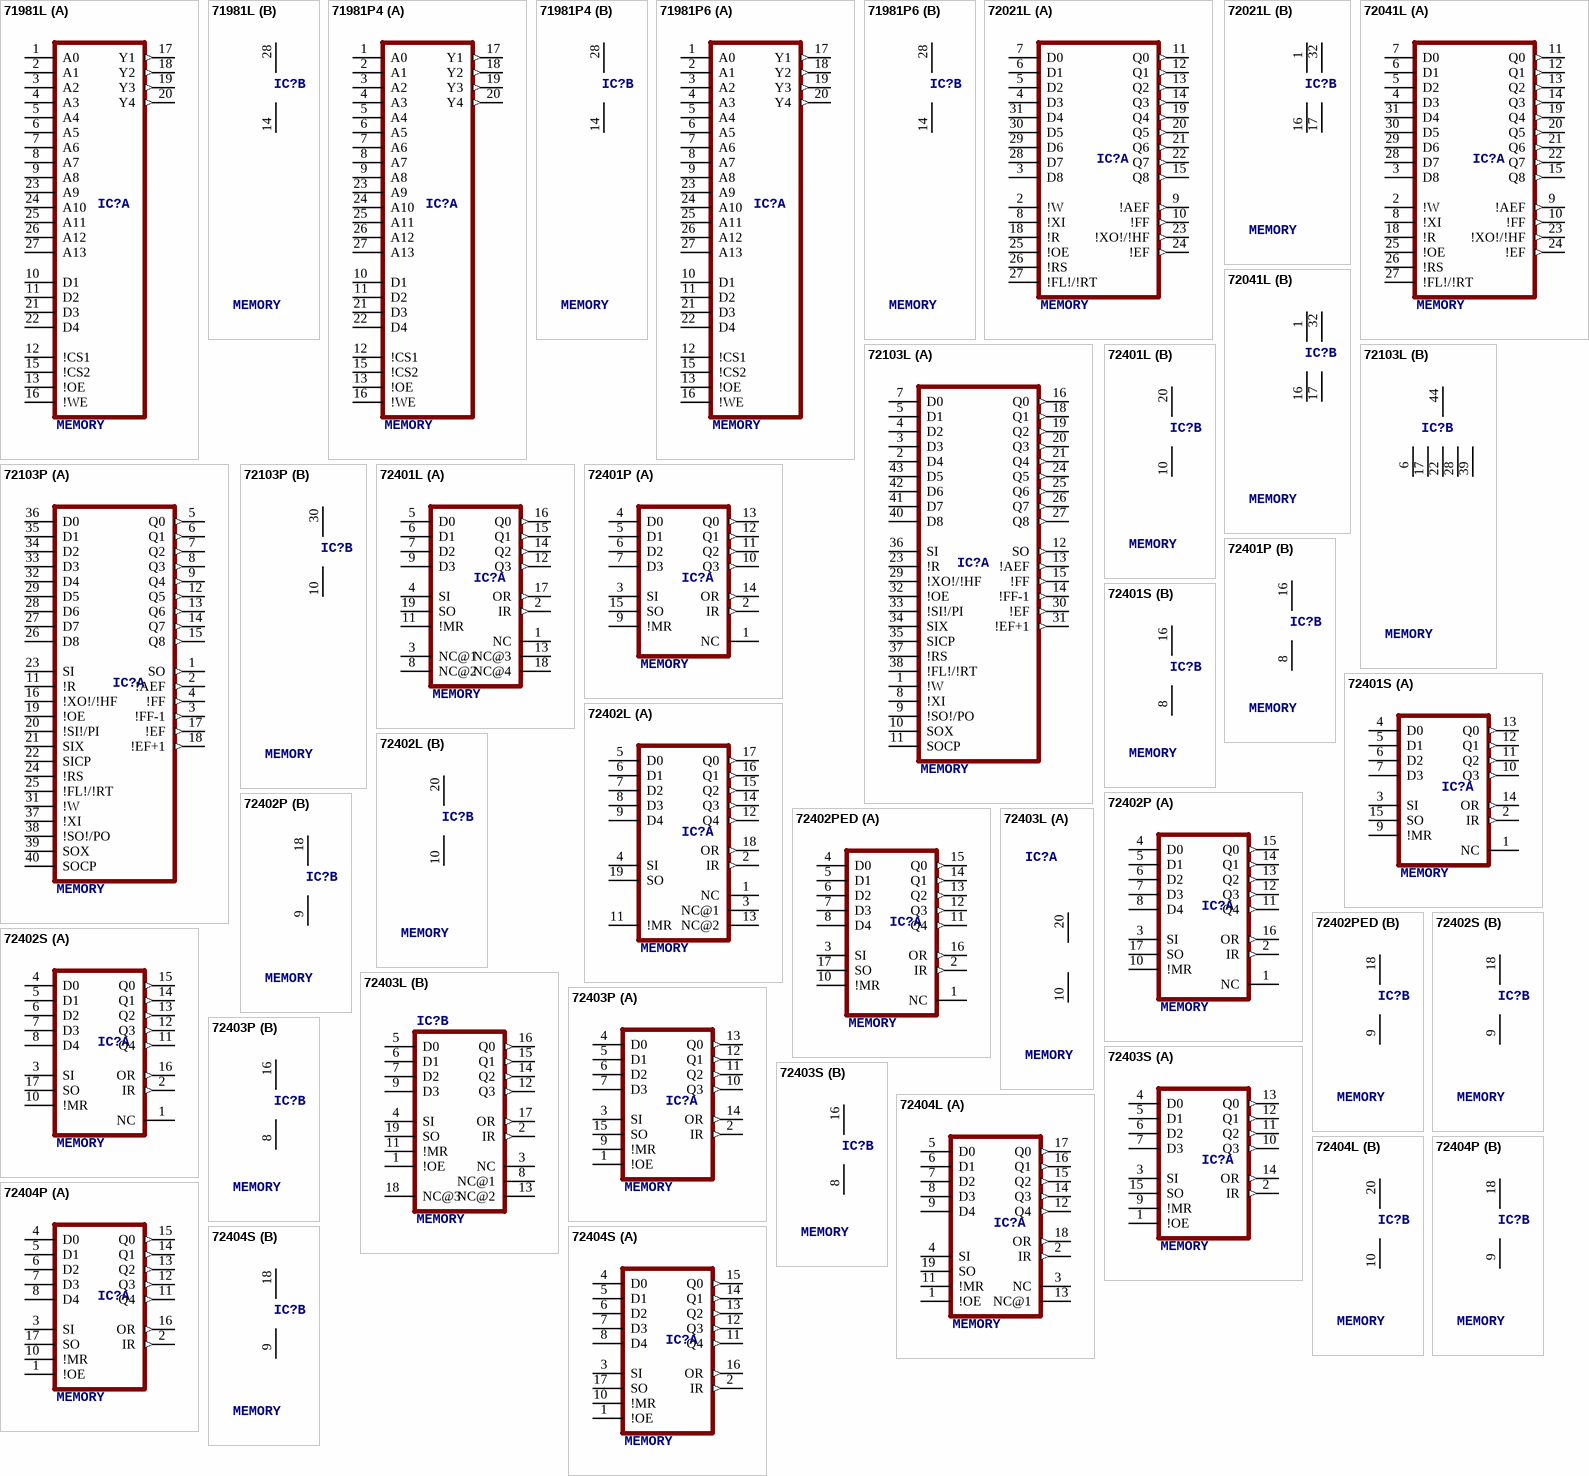
[diagram p19: symbols 71981L to 72404S]

## 71981L
designator IC?, comment MEMORY
OC_FARNELL: unknown; OC_NEWARK: unknown
footprint L28-2
part A pins: 1 A0, 2 A1, 3 A2, 4 A3, 5 A4, 6 A5, 7 A6, 8 A7, 9 A8, 10 D1, 11 D2, 12 !CS1, 13 !OE, 15 !CS2, 16 !WE, 17 Y1 (out), 18 Y2 (out), 19 Y3 (out), 20 Y4 (out), 21 D3, 22 D4, 23 A9, 24 A10, 25 A11, 26 A12, 27 A13
part B pins: 14 GND (power), 28 VCC (power)

## 71981P4
designator IC?, comment MEMORY
OC_FARNELL: unknown; OC_NEWARK: unknown
footprint DIL28-4
part A pins: 1 A0, 2 A1, 3 A2, 4 A3, 5 A4, 6 A5, 7 A6, 8 A7, 9 A8, 10 D1, 11 D2, 12 !CS1, 13 !OE, 15 !CS2, 16 !WE, 17 Y1 (out), 18 Y2 (out), 19 Y3 (out), 20 Y4 (out), 21 D3, 22 D4, 23 A9, 24 A10, 25 A11, 26 A12, 27 A13
part B pins: 14 GND (power), 28 VCC (power)

## 71981P6
designator IC?, comment MEMORY
OC_FARNELL: unknown; OC_NEWARK: unknown
footprint DIL28-3
part A pins: 1 A0, 2 A1, 3 A2, 4 A3, 5 A4, 6 A5, 7 A6, 8 A7, 9 A8, 10 D1, 11 D2, 12 !CS1, 13 !OE, 15 !CS2, 16 !WE, 17 Y1 (out), 18 Y2 (out), 19 Y3 (out), 20 Y4 (out), 21 D3, 22 D4, 23 A9, 24 A10, 25 A11, 26 A12, 27 A13
part B pins: 14 GND (power), 28 VCC (power)

## 72021L
designator IC?, comment MEMORY
OC_FARNELL: unknown; OC_NEWARK: unknown
footprint L32-1
part A pins: 2 !W, 3 D8, 4 D3, 5 D2, 6 D1, 7 D0, 8 !XI, 9 !AEF (out), 10 !FF (out), 11 Q0 (out), 12 Q1 (out), 13 Q2 (out), 14 Q3 (out), 15 Q8 (out), 18 !R, 19 Q4 (out), 20 Q5 (out), 21 Q6 (out), 22 Q7 (out), 23 !XO!/!HF (out), 24 !EF (out), 25 !OE, 26 !RS, 27 !FL!/!RT, 28 D7, 29 D6, 30 D5, 31 D4
part B pins: 1 VCC (power), 16 GND (power), 17 GND@1 (power), 32 VCC@1 (power)

## 72041L
designator IC?, comment MEMORY
OC_FARNELL: unknown; OC_NEWARK: unknown
footprint L32-1
part A pins: 2 !W, 3 D8, 4 D3, 5 D2, 6 D1, 7 D0, 8 !XI, 9 !AEF (out), 10 !FF (out), 11 Q0 (out), 12 Q1 (out), 13 Q2 (out), 14 Q3 (out), 15 Q8 (out), 18 !R, 19 Q4 (out), 20 Q5 (out), 21 Q6 (out), 22 Q7 (out), 23 !XO!/!HF (out), 24 !EF (out), 25 !OE, 26 !RS, 27 !FL!/!RT, 28 D7, 29 D6, 30 D5, 31 D4
part B pins: 1 VCC (power), 16 GND (power), 17 GND@1 (power), 32 VCC@1 (power)

## 72103L
designator IC?, comment MEMORY
OC_FARNELL: unknown; OC_NEWARK: unknown
footprint L44-1
part A pins: 1 !W, 2 D4, 3 D3, 4 D2, 5 D1, 7 D0, 8 !XI, 9 !SO!/PO, 10 SOX, 11 SOCP, 12 SO (out), 13 !AEF (out), 14 !FF-1 (out), 15 !FF (out), 16 Q0 (out), 18 Q1 (out), 19 Q2 (out), 20 Q3 (out), 21 Q4 (out), 23 !R, 24 Q5 (out), 25 Q6 (out), 26 Q7 (out), 27 Q8 (out), 29 !XO!/!HF, 30 !EF (out), 31 !EF+1 (out), 32 !OE, 33 !SI!/PI, 34 SIX, 35 SICP, 36 SI, 37 !RS, 38 !FL!/!RT, 40 D8, 41 D7, 42 D6, 43 D5
part B pins: 6 GND (power), 17 GND@1 (power), 22 GND@2 (power), 28 GND@3 (power), 39 GND@4 (power), 44 VCC (power)

## 72103P
designator IC?, comment MEMORY
OC_FARNELL: unknown; OC_NEWARK: unknown
footprint DIL40
part A pins: 1 SO (out), 2 !AEF (out), 3 !FF-1 (out), 4 !FF (out), 5 Q0 (out), 6 Q1 (out), 7 Q2 (out), 8 Q3 (out), 9 Q4 (out), 11 !R, 12 Q5 (out), 13 Q6 (out), 14 Q7 (out), 15 Q8 (out), 16 !XO!/!HF, 17 !EF (out), 18 !EF+1 (out), 19 !OE, 20 !SI!/PI, 21 SIX, 22 SICP, 23 SI, 24 !RS, 25 !FL!/!RT, 26 D8, 27 D7, 28 D6, 29 D5, 31 !W, 32 D4, 33 D3, 34 D2, 35 D1, 36 D0, 37 !XI, 38 !SO!/PO, 39 SOX, 40 SOCP
part B pins: 10 GND (power), 30 VCC (power)

## 72401L
designator IC?, comment MEMORY
OC_FARNELL: unknown; OC_NEWARK: unknown
footprint L20-2
part A pins: 1 NC, 2 IR (out), 3 NC@1, 4 SI, 5 D0, 6 D1, 7 D2, 8 NC@2, 9 D3, 11 !MR, 12 Q3 (out), 13 NC@3, 14 Q2 (out), 15 Q1 (out), 16 Q0 (out), 17 OR (out), 18 NC@4, 19 SO
part B pins: 10 GND (power), 20 VCC (power)

## 72401P
designator IC?, comment MEMORY
OC_FARNELL: unknown; OC_NEWARK: unknown
footprint DIL16
part A pins: 1 NC, 2 IR (out), 3 SI, 4 D0, 5 D1, 6 D2, 7 D3, 9 !MR, 10 Q3 (out), 11 Q2 (out), 12 Q1 (out), 13 Q0 (out), 14 OR (out), 15 SO
part B pins: 8 GND (power), 16 VCC (power)

## 72401S
designator IC?, comment MEMORY
OC_FARNELL: unknown; OC_NEWARK: unknown
footprint SO16-1
part A pins: 1 NC, 2 IR (out), 3 SI, 4 D0, 5 D1, 6 D2, 7 D3, 9 !MR, 10 Q3 (out), 11 Q2 (out), 12 Q1 (out), 13 Q0 (out), 14 OR (out), 15 SO
part B pins: 8 GND (power), 16 VCC (power)

## 72402L
designator IC?, comment MEMORY
OC_FARNELL: unknown; OC_NEWARK: unknown
footprint L20-2
part A pins: 1 NC, 2 IR (out), 3 NC@1, 4 SI, 5 D0, 6 D1, 7 D2, 8 D3, 9 D4, 11 !MR, 12 Q4 (out), 13 NC@2, 14 Q3 (out), 15 Q2 (out), 16 Q1 (out), 17 Q0 (out), 18 OR (out), 19 SO
part B pins: 10 GND (power), 20 VCC (power)

## 72402P
designator IC?, comment MEMORY
OC_FARNELL: unknown; OC_NEWARK: unknown
footprint DIL18
part A pins: 1 NC, 2 IR (out), 3 SI, 4 D0, 5 D1, 6 D2, 7 D3, 8 D4, 10 !MR, 11 Q4 (out), 12 Q3 (out), 13 Q2 (out), 14 Q1 (out), 15 Q0 (out), 16 OR (out), 17 SO
part B pins: 9 GND (power), 18 VCC (power)

## 72402PED
designator IC?, comment MEMORY
OC_FARNELL: unknown; OC_NEWARK: unknown
footprint DIL18
part A pins: 1 NC, 2 IR (out), 3 SI, 4 D0, 5 D1, 6 D2, 7 D3, 8 D4, 10 !MR, 11 Q4 (out), 12 Q3 (out), 13 Q2 (out), 14 Q1 (out), 15 Q0 (out), 16 OR (out), 17 SO
part B pins: 9 GND (power), 18 VCC (power)

## 72402S
designator IC?, comment MEMORY
OC_FARNELL: unknown; OC_NEWARK: unknown
footprint SO18-1
part A pins: 1 NC, 2 IR (out), 3 SI, 4 D0, 5 D1, 6 D2, 7 D3, 8 D4, 10 !MR, 11 Q4 (out), 12 Q3 (out), 13 Q2 (out), 14 Q1 (out), 15 Q0 (out), 16 OR (out), 17 SO
part B pins: 9 GND (power), 18 VCC (power)

## 72403L
designator IC?, comment MEMORY
OC_FARNELL: unknown; OC_NEWARK: unknown
footprint L20-2
part A pins: 10 GND (power), 20 VCC (power)
part B pins: 1 !OE, 2 IR (out), 3 NC, 4 SI, 5 D0, 6 D1, 7 D2, 8 NC@1, 9 D3, 11 !MR, 12 Q3 (out), 13 NC@2, 14 Q2 (out), 15 Q1 (out), 16 Q0 (out), 17 OR (out), 18 NC@3, 19 SO

## 72403P
designator IC?, comment MEMORY
OC_FARNELL: unknown; OC_NEWARK: unknown
footprint DIL16
part A pins: 1 !OE, 2 IR (out), 3 SI, 4 D0, 5 D1, 6 D2, 7 D3, 9 !MR, 10 Q3 (out), 11 Q2 (out), 12 Q1 (out), 13 Q0 (out), 14 OR (out), 15 SO
part B pins: 8 GND (power), 16 VCC (power)

## 72403S
designator IC?, comment MEMORY
OC_FARNELL: unknown; OC_NEWARK: unknown
footprint SO16-1
part A pins: 1 !OE, 2 IR (out), 3 SI, 4 D0, 5 D1, 6 D2, 7 D3, 9 !MR, 10 Q3 (out), 11 Q2 (out), 12 Q1 (out), 13 Q0 (out), 14 OR (out), 15 SO
part B pins: 8 GND (power), 16 VCC (power)

## 72404L
designator IC?, comment MEMORY
OC_FARNELL: unknown; OC_NEWARK: unknown
footprint L20-2
part A pins: 1 !OE, 2 IR (out), 3 NC, 4 SI, 5 D0, 6 D1, 7 D2, 8 D3, 9 D4, 11 !MR, 12 Q4 (out), 13 NC@1, 14 Q3 (out), 15 Q2 (out), 16 Q1 (out), 17 Q0 (out), 18 OR (out), 19 SO
part B pins: 10 GND (power), 20 VCC (power)

## 72404P
designator IC?, comment MEMORY
OC_FARNELL: unknown; OC_NEWARK: unknown
footprint DIL18
part A pins: 1 !OE, 2 IR (out), 3 SI, 4 D0, 5 D1, 6 D2, 7 D3, 8 D4, 10 !MR, 11 Q4 (out), 12 Q3 (out), 13 Q2 (out), 14 Q1 (out), 15 Q0 (out), 16 OR (out), 17 SO
part B pins: 9 GND (power), 18 VCC (power)

## 72404S
designator IC?, comment MEMORY
OC_FARNELL: unknown; OC_NEWARK: unknown
footprint SO18-1
part A pins: 1 !OE, 2 IR (out), 3 SI, 4 D0, 5 D1, 6 D2, 7 D3, 8 D4, 10 !MR, 11 Q4 (out), 12 Q3 (out), 13 Q2 (out), 14 Q1 (out), 15 Q0 (out), 16 OR (out), 17 SO
part B pins: 9 GND (power), 18 VCC (power)

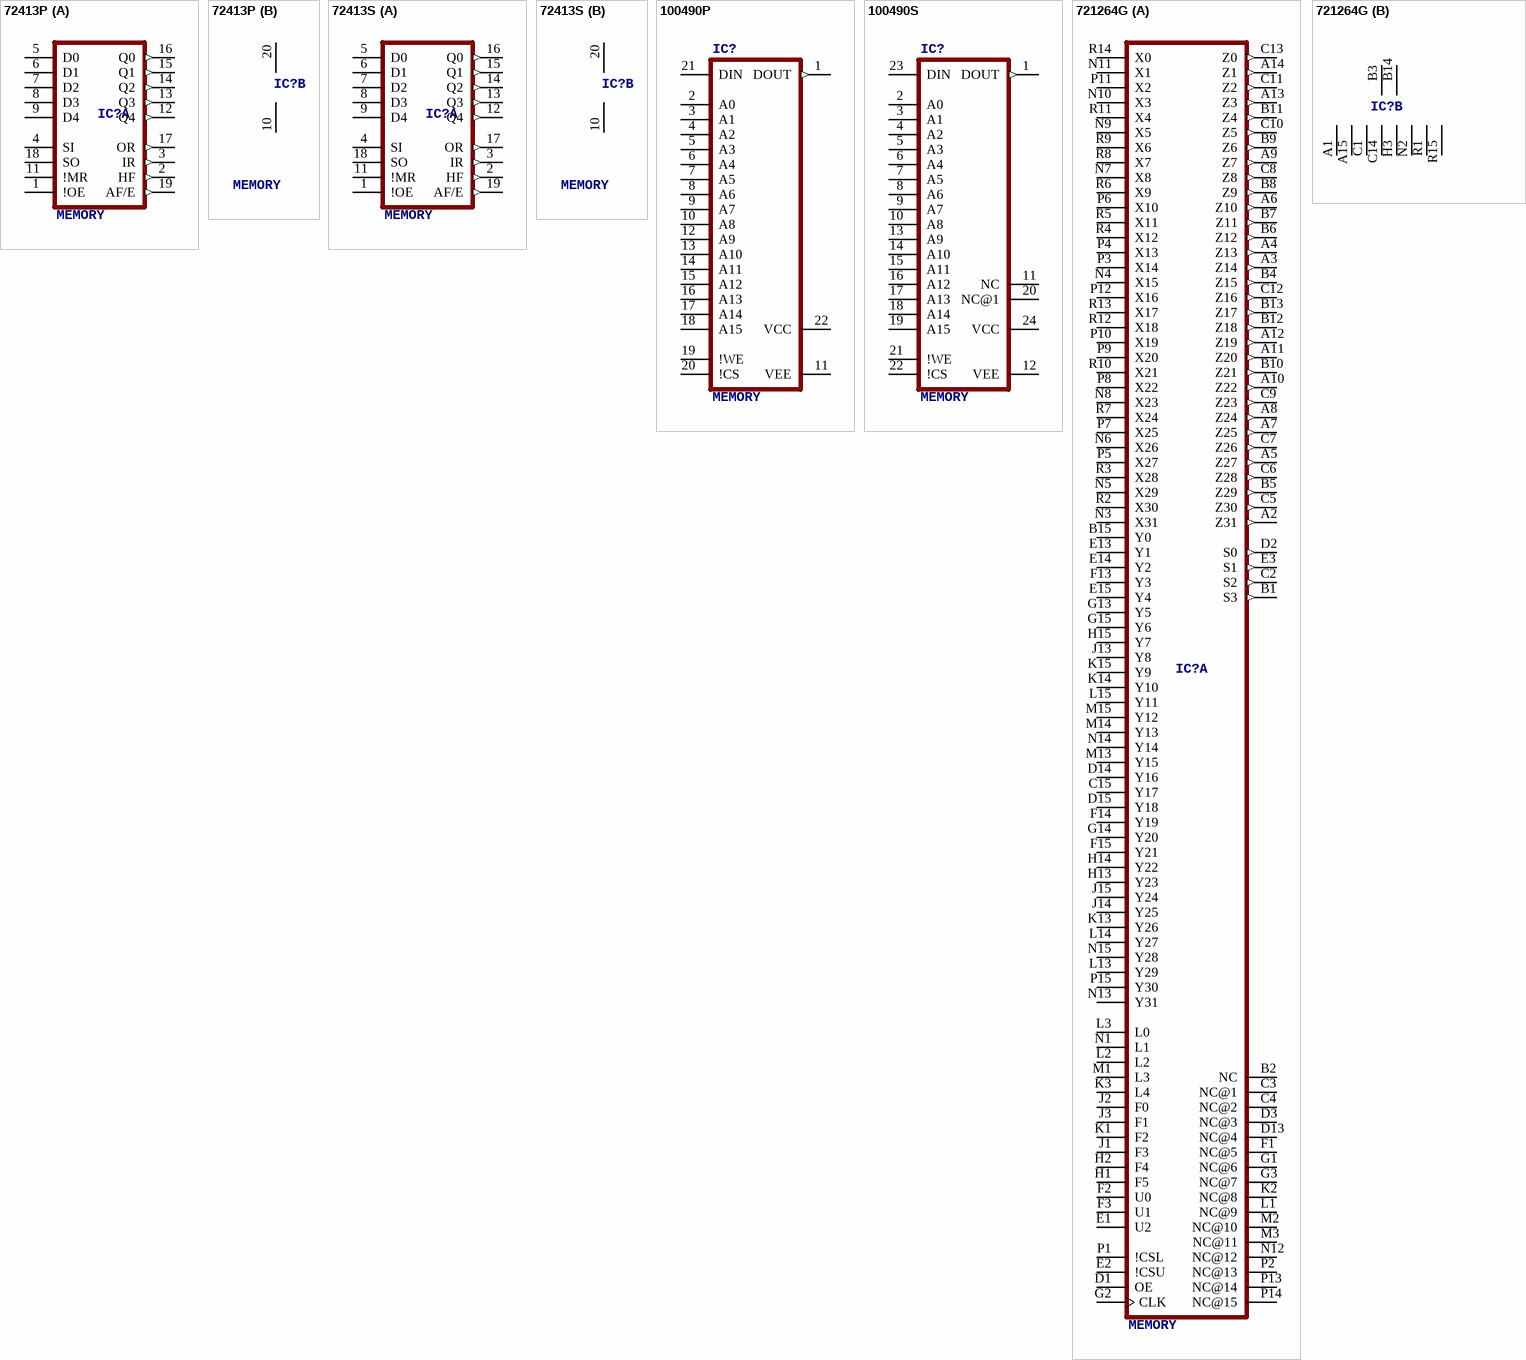
[diagram p20: symbols 72413P to 721264G]

## 72413P
designator IC?, comment MEMORY
OC_FARNELL: unknown; OC_NEWARK: unknown
footprint DIL20
part A pins: 1 !OE, 2 HF (out), 3 IR (out), 4 SI, 5 D0, 6 D1, 7 D2, 8 D3, 9 D4, 11 !MR, 12 Q4 (out), 13 Q3 (out), 14 Q2 (out), 15 Q1 (out), 16 Q0 (out), 17 OR (out), 18 SO, 19 AF/E (out)
part B pins: 10 GND (power), 20 VCC (power)

## 72413S
designator IC?, comment MEMORY
OC_FARNELL: unknown; OC_NEWARK: unknown
footprint SO20-2
part A pins: 1 !OE, 2 HF (out), 3 IR (out), 4 SI, 5 D0, 6 D1, 7 D2, 8 D3, 9 D4, 11 !MR, 12 Q4 (out), 13 Q3 (out), 14 Q2 (out), 15 Q1 (out), 16 Q0 (out), 17 OR (out), 18 SO, 19 AF/E (out)
part B pins: 10 GND (power), 20 VCC (power)

## 100490P
designator IC?, comment MEMORY
OC_FARNELL: unknown; OC_NEWARK: unknown
footprint DIL22-3
pins: 1 DOUT (out), 2 A0, 3 A1, 4 A2, 5 A3, 6 A4, 7 A5, 8 A6, 9 A7, 10 A8, 11 VEE (power), 12 A9, 13 A10, 14 A11, 15 A12, 16 A13, 17 A14, 18 A15, 19 !WE, 20 !CS, 21 DIN, 22 VCC (power)

## 100490S
designator IC?, comment MEMORY
OC_FARNELL: unknown; OC_NEWARK: unknown
footprint SO24-2
pins: 1 DOUT (out), 2 A0, 3 A1, 4 A2, 5 A3, 6 A4, 7 A5, 8 A6, 9 A7, 10 A8, 11 NC, 12 VEE (power), 13 A9, 14 A10, 15 A11, 16 A12, 17 A13, 18 A14, 19 A15, 20 NC@1, 21 !WE, 22 !CS, 23 DIN, 24 VCC (power)

## 721264G
designator IC?, comment MEMORY
OC_FARNELL: unknown; OC_NEWARK: unknown
footprint G144-1
part A pins: A2 Z31 (out), A3 Z14 (out), A4 Z13 (out), A5 Z27 (out), A6 Z10 (out), A7 Z25 (out), A8 Z24 (out), A9 Z7 (out), A10 Z22 (out), A11 Z20 (out), A12 Z19 (out), A13 Z3 (out), A14 Z1 (out), B1 S3 (out), B2 NC, B4 Z15 (out), B5 Z29 (out), B6 Z12 (out), B7 Z11 (out), B8 Z9 (out), B9 Z6 (out), B10 Z21 (out), B11 Z4 (out), B12 Z18 (out), B13 Z17 (out), B15 Y0, C2 S2 (out), C3 NC@1, C4 NC@2, C5 Z30 (out), C6 Z28 (out), C7 Z26 (out), C8 Z8 (out), C9 Z23 (out), C10 Z5 (out), C11 Z2 (out), C12 Z16 (out), C13 Z0 (out), C15 Y17, D1 OE, D2 S0 (out), D3 NC@3, D13 NC@4, D14 Y16, D15 Y18, E1 U2, E2 !CSU, E3 S1 (out), E13 Y1, E14 Y2, E15 Y4, F1 NC@5, F2 U0, F3 U1, F13 Y3, F14 Y19, F15 Y21, G1 NC@6, G2 CLK, G3 NC@7, G13 Y5, G14 Y20, G15 Y6, H1 F5, H2 F4, H13 Y23, H14 Y22, H15 Y7, J1 F3, J2 F0, J3 F1, J13 Y8, J14 Y25, J15 Y24, K1 F2, K2 NC@8, K3 L4, K13 Y26, K14 Y10, K15 Y9, L1 NC@9, L2, L3 L0, L13 Y29, L14 Y27, L15 Y11, M1 L3, M2 NC@10, M3 NC@11, M13 Y15, M14 Y13, M15 Y12, N1 L1, N3 X31, N4 X15, N5 X29, N6 X26, N7 X8, N8 X23, N9 X5, N10 X3, N11 X1, N12 NC@12, N13 Y31, N14 Y14, N15 Y28, P1 !CSL, P2 NC@13, P3 X14, P4 X13, P5 X27, P6 X10, P7 X25, P8 X22, P9 X20, P10 X19, P11 X2, P12 X16, P13 NC@14, P14 NC@15, P15 Y30, R2 X30, R3 X28, R4 X12, R5 X11, R6 X9, R7 X24, R8 X7, R9 X6, R10 X21, R11 X4, R12 X18, R13 X17, R14 X0
part B pins: A1 GND (power), A15 GND@1 (power), B3 VCC (power), B14 VCC@1 (power), C1 GND@2 (power), C14 GND@3 (power), H3 GND@4 (power), N2 GND@5 (power), R1 GND@6 (power), R15 GND@7 (power)